# Altium schematic symbol library MOTOR_FPC.SchLib: 2 symbols
Pins are listed as number, name and electrical type; pins without a type are passive.

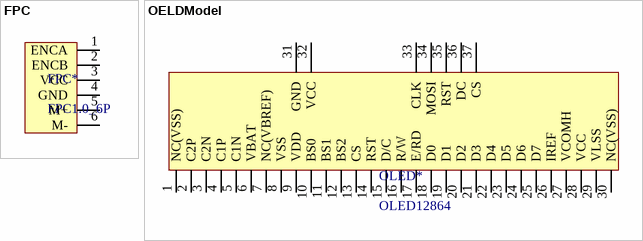
[diagram p0: symbols FPC to OELDModel]

## FPC
designator FPC*, comment FPC1.0_6P
footprint FPC_1.0_6P
pins: 1 ENCA, 2 ENCB, 3 VCC, 4 GND, 5 M+, 6 M-

## OELDModel
designator OLED*, comment OLED12864
footprint OLED12864
pins: 1 NC(VSS), 2 C2P, 3 C2N, 4 C1P, 5 C1N, 6 VBAT, 7 NC(VBREF), 8 VSS, 9 VDD, 10 BS0, 11 BS1, 12 BS2, 13 CS, 14 RST, 15 D/C, 16 R/W, 17 E/RD, 18 D0, 19 D1, 20 D2, 21 D3, 22 D4, 23 D5, 24 D6, 25 D7, 26 IREF, 27 VCOMH, 28 VCC, 29 VLSS, 30 NC(VSS), 31 GND, 32 VCC, 33 CLK, 34 MOSI, 35 RST, 36 DC, 37 CS